# Altium footprint library AndreiLib.PcbLib: 25 footprints (part 1 of 2)
Each footprint in its own frame and in the unit in brackets; x right, y up, seen from the top. Pads: shape width x height; smd on the part's side, far side on the other; paste and mask are expansions set on the pad; w line width, h text height; cw(c..) or ccw(c..) is an arc to the next point about the centre after c.
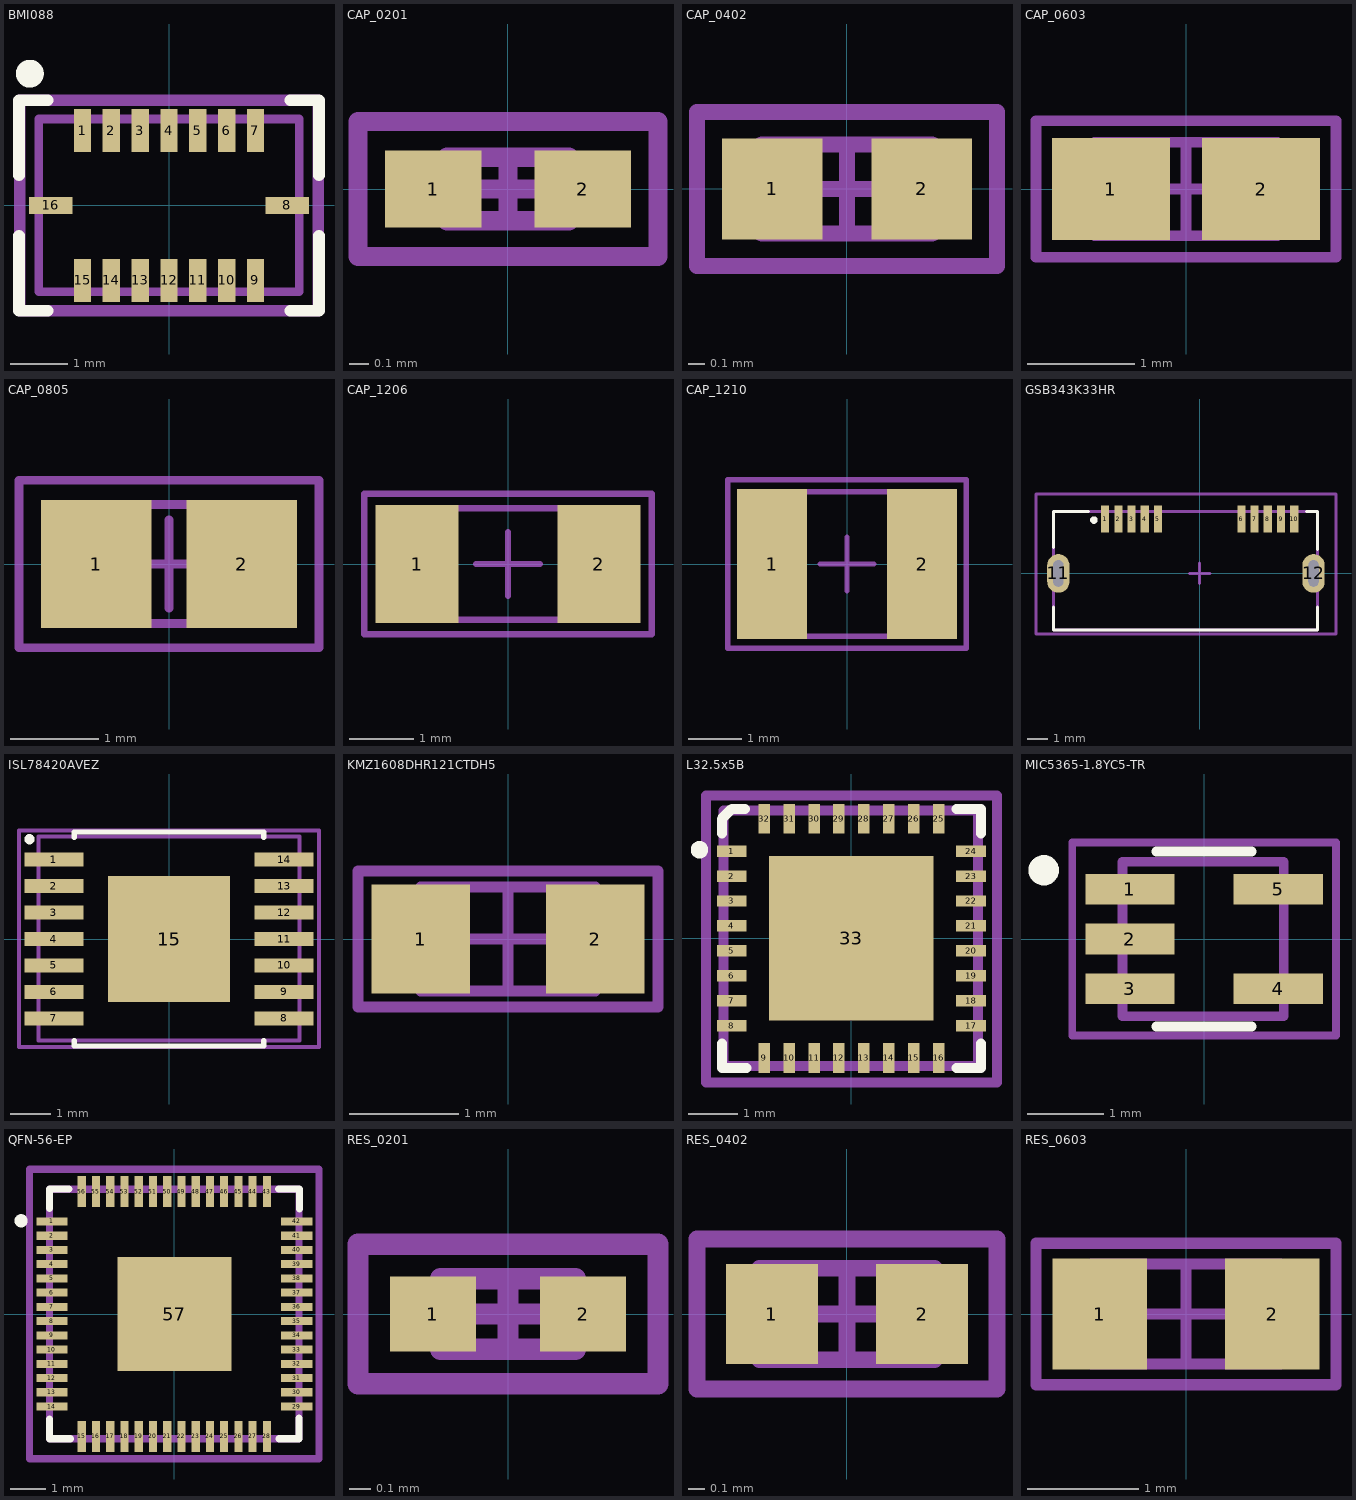
[diagram p0: the footprints below, top view; thin cyan lines are the x and y axes]

## BMI088 [mm]
pads (16):
  rect 0.3x0.75 smd mask+0.05: 1(-1.5,1.3) 2(-1,1.3) 3(-0.5,1.3) 4(0,1.3) 5(0.5,1.3) 6(1,1.3) 7(1.5,1.3) 9(1.5,-1.3) 10(1,-1.3) 11(0.5,-1.3) 12(0,-1.3) 13(-0.5,-1.3) 14(-1,-1.3) 15(-1.5,-1.3)
  rect 0.75x0.3 smd mask+0.05: 8(2.05,0) 16(-2.05,0)
Top Overlay:
  circle w0.254: c-2.413,2.286 r0.114
  lines w0.2: -2.602,-0.525 -2.602,-1.825 -2.102,-1.825 ; -2.602,0.525 -2.602,1.825 -2.102,1.825 ; 2.102,-1.825 2.602,-1.825 2.602,-0.525 ; 2.102,1.825 2.602,1.825 2.602,0.525
Top Assembly:
  lines w0.15: -2.261,-1.499 -2.261,1.499 2.261,1.499 2.261,-1.499 -2.261,-1.499
Top Courtyard:
  lines w0.2: -2.591,-1.829 2.591,-1.829 2.591,1.829 -2.591,1.829 -2.591,-1.829
3D body "BMI088.STEP": height 1.01, standoff 0.01, extent -2.25,-1.5 2.25,1.5

## CAP_0201 [mm] "Chip Capacitor, 2-Leads, Body 0.60x0.30mm, IPC Medium Density"
height 0.33
pads (2):
  rect 0.5x0.4 smd mask+0.05: 1(-0.386,0) 2(0.386,0)
Top Assembly:
  lines w0.1: -0.315,-0.165 -0.315,0.165 0.315,0.165 0.315,-0.165 -0.315,-0.165
Top Courtyard:
  lines w0.1: -0.775,-0.349 -0.775,0.349 0.775,0.349 0.775,-0.349 -0.775,-0.349
Top Component Center:
  lines w0.1: -0.165,0 0.165,0 ; 0,-0.165 0,0.165
3D body "CAP_0201.step": height 0.33, standoff 0, extent -0.315,-0.165 0.315,0.165

## CAP_0402 [mm] "Chip Capacitor, 2-Leads, Body 1.00x0.50mm, IPC Medium Density"
height 0.55
pads (2):
  rect 0.62x0.62 smd mask+0.05: 1(-0.46,0) 2(0.46,0)
Top Assembly:
  lines w0.1: -0.525,-0.275 -0.525,0.275 0.525,0.275 0.525,-0.275 -0.525,-0.275
Top Courtyard:
  lines w0.1: -0.925,-0.475 -0.925,0.475 0.925,0.475 0.925,-0.475 -0.925,-0.475
Top Component Center:
  lines w0.1: -0.275,0 0.275,0 ; 0,-0.275 0,0.275
3D body "CAP_0402.step": height 0.55, standoff 0, extent -0.525,-0.275 0.525,0.275

## CAP_0603 [mm] "Chip Capacitor, 2-Leads, Body 1.60x0.80mm, IPC Medium Density"
height 0.87
pads (2):
  rect 1.1x0.95 smd mask+0.05: 1(-0.7,0) 2(0.7,0)
Top Assembly:
  lines w0.1: -0.85,-0.435 0.85,-0.435 0.85,0.435 -0.85,0.435 -0.85,-0.435
Top Courtyard:
  lines w0.1: -1.397,-0.635 -1.397,0.635 -0.686,0.635 0.686,0.635 1.397,0.635 1.397,-0.635 0.686,-0.635 -0.686,-0.635 -1.397,-0.635
Top Component Center:
  lines w0.1: -0.435,0 0.435,0 ; 0,-0.435 0,0.435
3D body "CAP_0603.step": height 0.87, standoff 0, extent -0.85,-0.435 0.85,0.435

## CAP_0805 [mm] "Chip Capacitor, 2-Leads, Body 2.00x1.25mm, IPC Medium Density"
height 1.35
pads (2):
  rect 1.25x1.45 smd mask+0.05: 1(-0.825,0) 2(0.825,0)
Top Assembly:
  lines w0.1: -1.05,-0.675 1.05,-0.675 1.05,0.675 -1.05,0.675 -1.05,-0.675
Top Courtyard:
  lines w0.1: -1.7,-0.95 1.7,-0.95 1.7,0.95 -1.7,0.95 -1.7,-0.95
Top Component Center:
  lines w0.1: -0.5,0 0.5,0 ; 0,-0.5 0,0.5
3D body "CAP_0805.step": height 1.35, standoff 0, extent -1.05,-0.675 1.05,0.675

## CAP_1206 [mm] "Chip Capacitor, 2-Leads, Body 3.20x1.60mm, IPC Medium Density"
height 1.35
pads (2):
  rect 1.3x1.85 smd mask+0.05: 1(-1.425,0) 2(1.425,0)
Top Assembly:
  lines w0.1: -1.675,-0.875 -1.675,0.875 1.675,0.875 1.675,-0.875 -1.675,-0.875
Top Courtyard:
  lines w0.1: -2.249,-1.099 -2.249,1.099 2.249,1.099 2.249,-1.099 -2.249,-1.099
Top Component Center:
  lines w0.1: -0.5,0 0.5,0 ; 0,-0.5 0,0.5
3D body "CAP_1206.step": height 1.35, standoff 0, extent -1.675,-0.875 1.675,0.875

## CAP_1210 [mm] "Chip Capacitor, 2-Leads, Body 3.20x2.50mm, IPC Medium Density"
height 1.8
pads (2):
  rect 1.3x2.8 smd mask+0.05: 1(-1.4,0) 2(1.4,0)
Top Assembly:
  lines w0.1: -1.7,-1.35 1.7,-1.35 1.7,1.35 -1.7,1.35 -1.7,-1.35
Top Courtyard:
  lines w0.1: -2.224,-1.575 2.224,-1.575 2.224,1.575 -2.224,1.575 -2.224,-1.575
Top Component Center:
  lines w0.1: -0.5,0 0.5,0 ; 0,-0.5 0,0.5
3D body "CAP_1210.step": height 1.8, standoff 0, extent -1.7,-1.35 1.7,1.35

## GSB343K33HR [mm]
pads (12):
  rect 0.4x1.35 smd mask+0.05: 1(-4.65,2.675) 2(-4,2.675) 3(-3.35,2.675) 4(-2.7,2.675) 5(-2.05,2.675) 6(2.05,2.675) 7(2.7,2.675) 8(3.35,2.675) 9(4,2.675) 10(4.65,2.675)
  oval 1.1x1.9 hole 0.5 slot 1.3 at 90 deg mask+0.05: 11(-6.95,0) 12(5.6,0)
Top Overlay:
  circle w0.254: c-5.2,2.625 r0.057
  lines w0.15: -7.2,-1.663 -7.2,-2.775 5.8,-2.775 5.8,-1.663 ; -7.2,1.275 -7.2,3.05 -5.475,3.05 ; 5.25,3.05 5.8,3.05 5.8,1.175
Top Assembly:
  lines w0.15: -7.2,-2.775 -7.2,3.05 5.8,3.05 5.8,-2.775 -7.2,-2.775
Top Courtyard:
  lines w0.15: -8.05,-2.45 -8.05,3.65 -8.05,3.9 -7.1,3.9 5.9,3.9 6.7,3.9 6.7,3.65 6.7,-2.45 6.704,-2.975 5.904,-2.975 -7.096,-2.975 -8.046,-2.975 -8.05,-2.45
Top Component Center:
  lines w0.15: -0.5,0 0,0 ; 0,-0.5 0,0 ; 0,0.5 0,0 ; 0.5,0 0,0
3D body "gsb343k33hr.stp": height 2.73, standoff -0.99, extent -7.163,-2.809 5.775,3.009

## ISL78420AVEZ [mm]
pads (15):
  rect 1.45x0.35 smd paste+0 mask+0.05: 1(-2.825,1.95) 2(-2.825,1.3) 3(-2.825,0.65) 4(-2.825,0) 5(-2.825,-0.65) 6(-2.825,-1.3) 7(-2.825,-1.95) 8(2.825,-1.95) 9(2.825,-1.3) 10(2.825,-0.65) 11(2.825,0) 12(2.825,0.65) 13(2.825,1.3) 14(2.825,1.95)
  rect 3x3.1 smd paste+0 mask+0.05: 15(0,0)
Top Overlay:
  circle w0.125: c-3.425,2.45 r0.062
  lines w0.127: -2.325,-2.5 -2.325,-2.625 2.325,-2.625 2.325,-2.5 ; -2.325,2.5 -2.325,2.625 2.325,2.625 2.325,2.5
Top Assembly:
  lines w0.1: -3.2,-2.489 3.2,-2.489 3.2,2.515 -3.2,2.515 -3.2,-2.489
Top Courtyard:
  lines w0.1: -3.683,-2.65 -3.683,2.667 3.683,2.667 3.683,-2.65 -3.683,-2.65
Top Component Center:
  lines w0.1: -0.5,0 0.5,0 ; 0,-0.5 0,0.5
3D body "TSOP65P640X120-15_M14_173B.STEP": height 1.2, standoff 0, extent -3.2,-2.5 3.2,2.5

## KMZ1608DHR121CTDH5 [mm]
pads (2):
  rect 0.9x1 smd mask+0.05: 1(-0.8,0) 2(0.8,0)
Top Assembly:
  lines w0.1: -0.8,-0.475 0.8,-0.475 0.8,0.475 -0.8,0.475 -0.8,-0.475
Top Courtyard:
  lines w0.1: -1.375,-0.625 -1.375,0.625 1.375,0.625 1.375,-0.625 -1.375,-0.625
Top Component Center:
  lines w0.1: -0.45,0 0.45,0 ; 0,-0.45 0,0.45
3D body "KMZ1608DHR121CTDH5.STEP": height 0.8, standoff 0, extent -0.8,-0.475 0.8,0.475

## L32.5x5B [mm]
pads (33):
  rect 0.6x0.23 smd mask+0.05: 1(-2.4,1.75) 2(-2.4,1.25) 3(-2.4,0.75) 4(-2.4,0.25) 5(-2.4,-0.25) 6(-2.4,-0.75) 7(-2.4,-1.25) 8(-2.4,-1.75) 17(2.4,-1.75) 18(2.4,-1.25) 19(2.4,-0.75) 20(2.4,-0.25) 21(2.4,0.25) 22(2.4,0.75) 23(2.4,1.25) 24(2.4,1.75)
  rect 0.23x0.6 smd mask+0.05: 9(-1.75,-2.4) 10(-1.25,-2.4) 11(-0.75,-2.4) 12(-0.25,-2.4) 13(0.25,-2.4) 14(0.75,-2.4) 15(1.25,-2.4) 16(1.75,-2.4) 25(1.75,2.4) 26(1.25,2.4) 27(0.75,2.4) 28(0.25,2.4) 29(-0.25,2.4) 30(-0.75,2.4) 31(-1.25,2.4) 32(-1.75,2.4)
  rect 3.3x3.3 smd mask+0.05: 33(0,0)
Top Overlay:
  circle w0.25: c-3.048,1.778 r0.05
  lines w0.2: -2.6,-2.107 -2.6,-2.6 -2.107,-2.6 ; -2.6,2.107 -2.6,2.4 -2.4,2.6 -2.132,2.6 ; 2.107,-2.6 2.6,-2.6 2.6,-2.107 ; 2.107,2.6 2.6,2.6 2.6,2.107
Top Assembly:
  lines w0.2: -2.565,-2.565 2.54,-2.565 2.54,2.565 -2.565,2.565 -2.565,-2.565
Top Courtyard:
  lines w0.2: -2.921,-2.896 2.921,-2.896 2.921,2.87 -2.921,2.87 -2.921,-2.896
3D body "ISL6236AIRZ.stp": height 1, standoff 0, extent -2.55,-2.55 2.55,2.55

## MIC5365-1.8YC5-TR [mm]
pads (5):
  rect 1.17x0.4 smd mask+0.05: 1(-0.97,0.65) 2(-0.97,0) 3(-0.97,-0.65) 4(0.97,-0.65) 5(0.97,0.65)
Top Overlay:
  circle w0.2: c-2.1,0.9 r0.1
  circle w0.2: c-2.1,0.9 r0.05
  lines w0.127: -0.625,-1.145 0.625,-1.145 ; -0.625,1.145 0.625,1.145
Top Assembly:
  lines w0.127: -1.067,-1.012 -1.067,1.012 1.041,1.012 1.041,-1.012 -1.067,-1.012
Top Courtyard:
  lines w0.1: -1.727,-1.262 -1.727,1.262 1.727,1.262 1.727,-1.262 -1.727,-1.262
3D body "step_temp.STEP": height 1.1, standoff 0, extent -1.05,-1 1.05,1

## QFN-56-EP [mm]
pads (57):
  rect 0.875x0.23 smd mask+0.05: 1(-3.437,2.6) 2(-3.437,2.2) 3(-3.437,1.8) 4(-3.437,1.4) 5(-3.437,1) 6(-3.437,0.6) 7(-3.437,0.2) 8(-3.437,-0.2) 9(-3.437,-0.6) 10(-3.437,-1) 11(-3.437,-1.4) 12(-3.437,-1.8) 13(-3.437,-2.2) 14(-3.437,-2.6) 29(3.437,-2.6) 30(3.437,-2.2) 31(3.437,-1.8) 32(3.437,-1.4) 33(3.437,-1) 34(3.437,-0.6) 35(3.437,-0.2) 36(3.437,0.2) 37(3.437,0.6) 38(3.437,1) 39(3.437,1.4) 40(3.437,1.8) 41(3.437,2.2) 42(3.437,2.6)
  rect 0.23x0.875 smd mask+0.05: 15(-2.6,-3.437) 16(-2.2,-3.437) 17(-1.8,-3.437) 18(-1.4,-3.437) 19(-1,-3.437) 20(-0.6,-3.437) 21(-0.2,-3.437) 22(0.2,-3.437) 23(0.6,-3.437) 24(1,-3.437) 25(1.4,-3.437) 26(1.8,-3.437) 27(2.2,-3.437) 28(2.6,-3.437) 43(2.6,3.437) 44(2.2,3.437) 45(1.8,3.437) 46(1.4,3.437) 47(1,3.437) 48(0.6,3.437) 49(0.2,3.437) 50(-0.2,3.437) 51(-0.6,3.437) 52(-1,3.437) 53(-1.4,3.437) 54(-1.8,3.437) 55(-2.2,3.437) 56(-2.6,3.437)
  rect 3.2x3.2 smd mask+0.05: 57(0,0)
Top Overlay:
  circle w0.254: c-4.305,2.618 r0.057
  lines w0.2: -3.508,-2.945 -3.508,-3.503 -2.923,-3.503 ; -3.507,2.969 -3.506,3.506 -2.958,3.509 ; 2.929,3.507 3.515,3.507 3.515,2.949 ; 2.949,-3.503 3.507,-3.503 3.507,-2.918
Top Assembly:
  lines w0.2: -3.505,-3.505 3.505,-3.505 3.505,3.505 -3.505,3.505 -3.505,-3.505
Top Courtyard:
  lines w0.2: -4.064,-4.064 4.064,-4.064 4.064,4.064 -4.064,4.064 -4.064,-4.064
3D body "RP2040_QFN_PACKAGE.STEP": height 1, standoff 0, extent -3.51,-3.51 3.51,3.51

## RES_0201 [mm] "Chip Resistor, 2-Leads, Body 0.60x0.30mm, IPC Medium Density"
height 0.26
pads (2):
  rect 0.4x0.35 smd mask+0.05: 1(-0.35,0) 2(0.35,0)
Top Assembly:
  lines w0.1: -0.315,-0.165 0.315,-0.165 0.315,0.165 -0.315,0.165 -0.315,-0.165
Top Courtyard:
  lines w0.1: -0.7,-0.325 0.7,-0.325 0.7,0.325 -0.7,0.325 -0.7,-0.325
Top Component Center:
  lines w0.1: -0.165,0 0.165,0 ; 0,-0.165 0,0.165
3D body "RES_0201.step": height 0.26, standoff 0, extent -0.315,-0.165 0.315,0.165

## RES_0402 [mm] "Chip Resistor, 2-Leads, Body 1.00x0.50mm, IPC Medium Density"
height 0.4
pads (2):
  rect 0.55x0.6 smd mask+0.05: 1(-0.45,0) 2(0.45,0)
Top Assembly:
  lines w0.1: -0.525,-0.275 0.525,-0.275 0.525,0.275 -0.525,0.275 -0.525,-0.275
Top Courtyard:
  lines w0.1: -0.9,-0.45 -0.9,0.45 0.9,0.45 0.9,-0.45 -0.9,-0.45
Top Component Center:
  lines w0.1: -0.275,0 0.275,0 ; 0,-0.275 0,0.275
3D body "RES_0402.step": height 0.4, standoff 0, extent -0.525,-0.275 0.525,0.275

## RES_0603 [mm] "Chip Resistor, 2-Leads, Body 1.60x0.80mm, IPC Medium Density"
height 0.55
pads (2):
  rect 0.85x1 smd mask+0.05: 1(-0.775,0) 2(0.775,0)
Top Assembly:
  lines w0.1: -0.85,-0.45 0.85,-0.45 0.85,0.45 -0.85,0.45 -0.85,-0.45
Top Courtyard:
  lines w0.1: -1.346,-0.635 -1.346,0.635 1.346,0.635 1.346,-0.635 -1.346,-0.635
Top Component Center:
  lines w0.1: -0.45,0 0.45,0 ; 0,-0.45 0,0.45
3D body "RES_0603.step": height 0.55, standoff 0, extent -0.85,-0.45 0.85,0.45